# EAGLE library part DM74ALS125MX (library Fairchild_By_element14_Batch_1)
Quad 3-STATE Buffer
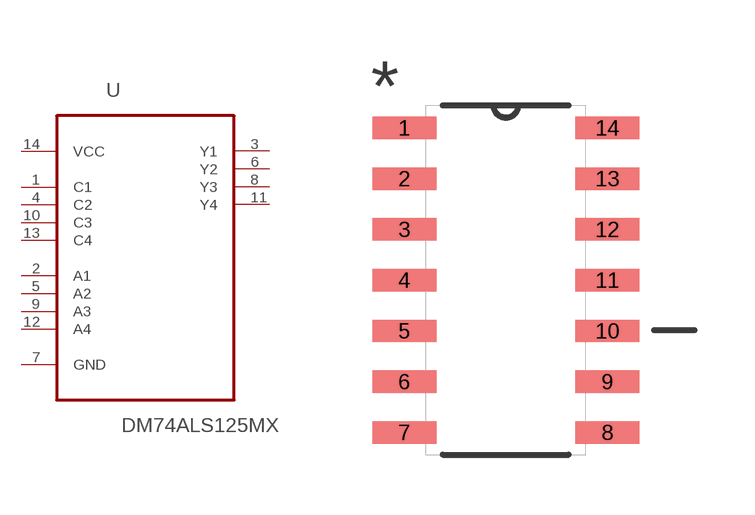
[diagram p178: symbol with the pads of SOIC127P600X175-14N; footprint SOIC127P600X175-14N]

Designator prefix U

## DM74ALS125MX (MPN: DM74ALS125MX; OC_FARNELL: 4495160; OC_NEWARK: 18C6141; PACKAGE: SOIC-14; SUPPLIER: Fairchild)  [SOIC127P600X175-14N]
1  C1  in
2  A1  in
3  Y1  out
4  C2  in
5  A2  in
6  Y2  out
7  GND  pas
8  Y3  out
9  A3  in
10  C3  in
11  Y4  out
12  A4  in
13  C4  in
14  VCC  pwr

## Footprint SOIC127P600X175-14N (pad centres in mm)
smd 1.6 x 0.559: 1 -2.54,3.81; 2 -2.54,2.54; 3 -2.54,1.27; 4 -2.54,0; 5 -2.54,-1.27; 6 -2.54,-2.54; 7 -2.54,-3.81; 8 2.54,-3.81; 9 2.54,-2.54; 10 2.54,-1.27; 11 2.54,0; 12 2.54,1.27; 13 2.54,2.54; 14 2.54,3.81